# Altium footprint library 32P_HEADER-SPE-SSM-116-L-DV.PcbLib: 1 footprints
Each footprint in its own frame and in the unit in brackets; x right, y up, seen from the top. Pads: shape width x height; smd on the part's side, far side on the other; paste and mask are expansions set on the pad; w line width, h text height; cw(c..) or ccw(c..) is an arc to the next point about the centre after c.
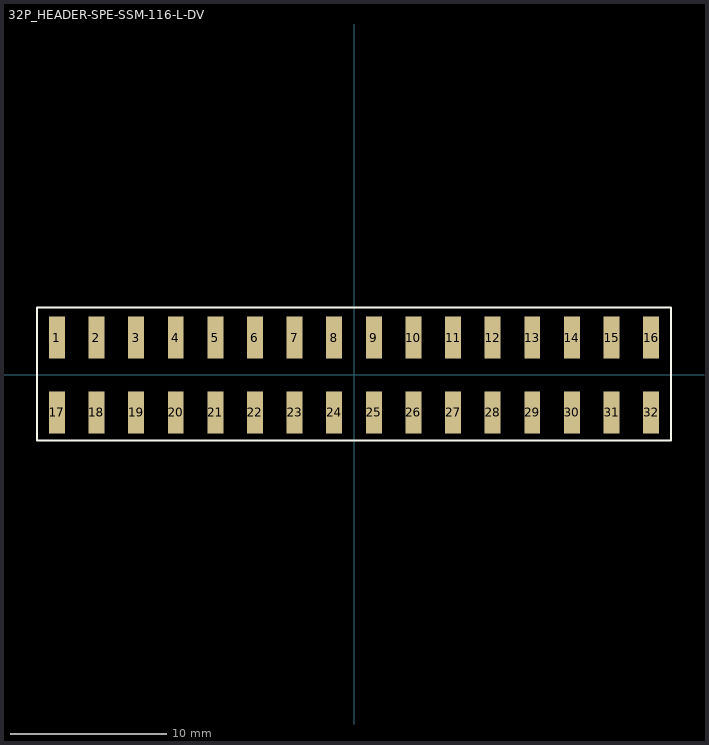
[diagram p0: the footprint, top view; thin cyan lines are the x and y axes]

## 32P_HEADER-SPE-SSM-116-L-DV [mm]
height 7.37
pads (32):
  rect 1.02x2.7 smd: 1(-19.05,2.395) 2(-16.51,2.395) 3(-13.97,2.395) 4(-11.43,2.395) 5(-8.89,2.395) 6(-6.35,2.395) 7(-3.81,2.395) 8(-1.27,2.395) 9(1.27,2.395) 10(3.81,2.395) 11(6.35,2.395) 12(8.89,2.395) 13(11.43,2.395) 14(13.97,2.395) 15(16.51,2.395) 16(19.05,2.395) 17(-19.05,-2.395) 18(-16.51,-2.395) 19(-13.97,-2.395) 20(-11.43,-2.395) 21(-8.89,-2.395) 22(-6.35,-2.395) 23(-3.81,-2.395) 24(-1.27,-2.395) 25(1.27,-2.395) 26(3.81,-2.395) 27(6.35,-2.395) 28(8.89,-2.395) 29(11.43,-2.395) 30(13.97,-2.395) 31(16.51,-2.395) 32(19.05,-2.395)
Top Overlay:
  lines w0.12: -20.32,-4.191 20.32,-4.191 20.32,4.318 -20.32,4.318 -20.32,-4.191
3D body: height 7.37, standoff -1.45, extent -20.32,-3.5 20.32,3.532